# Altium integrated library SS-52400-002.IntLib: 1 symbol
Pins are listed as number, name and electrical type; pins without a type are passive.

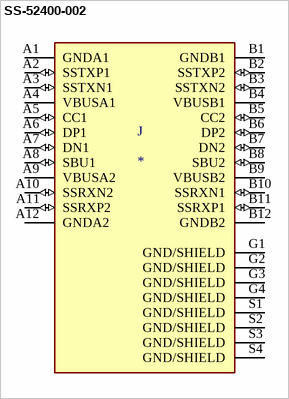
[diagram p0: symbol SS-52400-002]

## SS-52400-002
designator J
USB Type-C Connector | 1 Port | Right Angle Receptacle | Shielded | 0.039[1.00mm]; MF: Stewart Connector; MP: SS-52400-002; Package: None; Mouser-Purchase-URL: https://snapeda.com/shop?store=Mouser&id=4629247; Value: *; Price: None; DigiKey-Purchase-URL: https://snapeda.com/shop?store=DigiKey&id=4629247; Availability: Warning; SnapEDA_Link: https://www.snapeda.com/parts/SS-52400-002/Stewart%20Connector/view-part/4629247/?ref=snap
footprint BELFUSE_SS-52400-002
pins: A1 GNDA1 (power), A2 SSTXP1 (io), A3 SSTXN1 (io), A4 VBUSA1 (power), A5 CC1 (io), A6 DP1 (io), A7 DN1 (io), A8 SBU1 (io), A9 VBUSA2 (power), A10 SSRXN2 (io), A11 SSRXP2 (io), A12 GNDA2 (power), B1 GNDB1 (power), B2 SSTXP2 (io), B3 SSTXN2 (io), B4 VBUSB1 (power), B5 CC2 (io), B6 DP2 (io), B7 DN2 (io), B8 SBU2 (io), B9 VBUSB2 (power), B10 SSRXN1 (io), B11 SSRXP1 (io), B12 GNDB2 (power), G1 GND/SHIELD (power), G2 GND/SHIELD (power), G3 GND/SHIELD (power), G4 GND/SHIELD (power), S1 GND/SHIELD (power), S2 GND/SHIELD (power), S3 GND/SHIELD (power), S4 GND/SHIELD (power)